# EAGLE library part DWARFG2 (library metratec_oem)
SMT UHF RFID (860-960MHz) Module UFL external antenna connector, 8 GPIOs, UART, 5V 200mA Supply
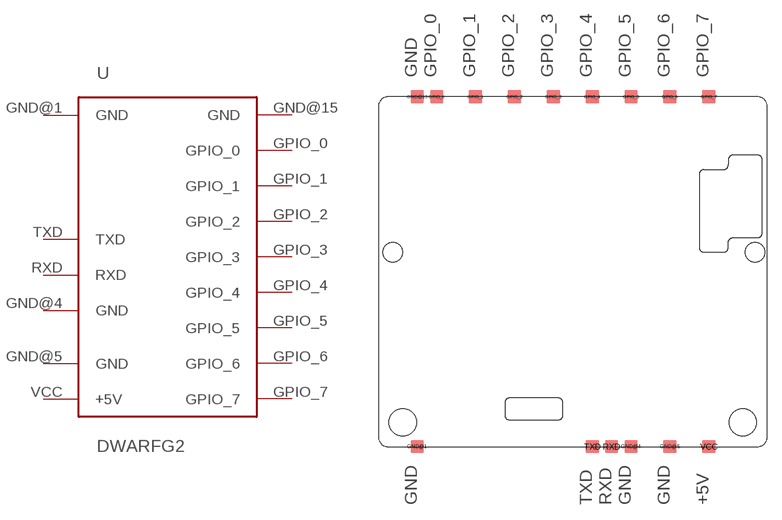
[diagram p5: symbol with the pads of DWARFG2; footprint DWARFG2]

Designator prefix -

## DWARFG2  [DWARFG2]
GND@1  GND  pas
GND@4  GND  pas
GND@5  GND  pas
GND@15  GND  pas
GPIO_0  GPIO_0
GPIO_1  GPIO_1
GPIO_2  GPIO_2
GPIO_3  GPIO_3
GPIO_4  GPIO_4
GPIO_5  GPIO_5
GPIO_6  GPIO_6
GPIO_7  GPIO_7
RXD  RXD  in
TXD  TXD  out
VCC  +5V  pwr

## Footprint DWARFG2 (pad centres in mm)
smd 1.4 x 1.4: GND@1 4,0; GND@4 26,0; GND@5 30,0; GND@15 4,36; GPIO_0 6,36; GPIO_1 10,36; GPIO_2 14,36; GPIO_3 18,36; GPIO_4 22,36; GPIO_5 26,36; GPIO_6 30,36; GPIO_7 34,36; RXD 24,0; TXD 22,0; VCC 34,0
hole 2.8 at 2.5,2.5
hole 2.8 at 37.5,2.5
hole 2 at 1.5,20
hole 2 at 38.75,20